# Altium integrated library Infineon_Sensor_IC.IntLib: 87 symbols (part 3 of 3)
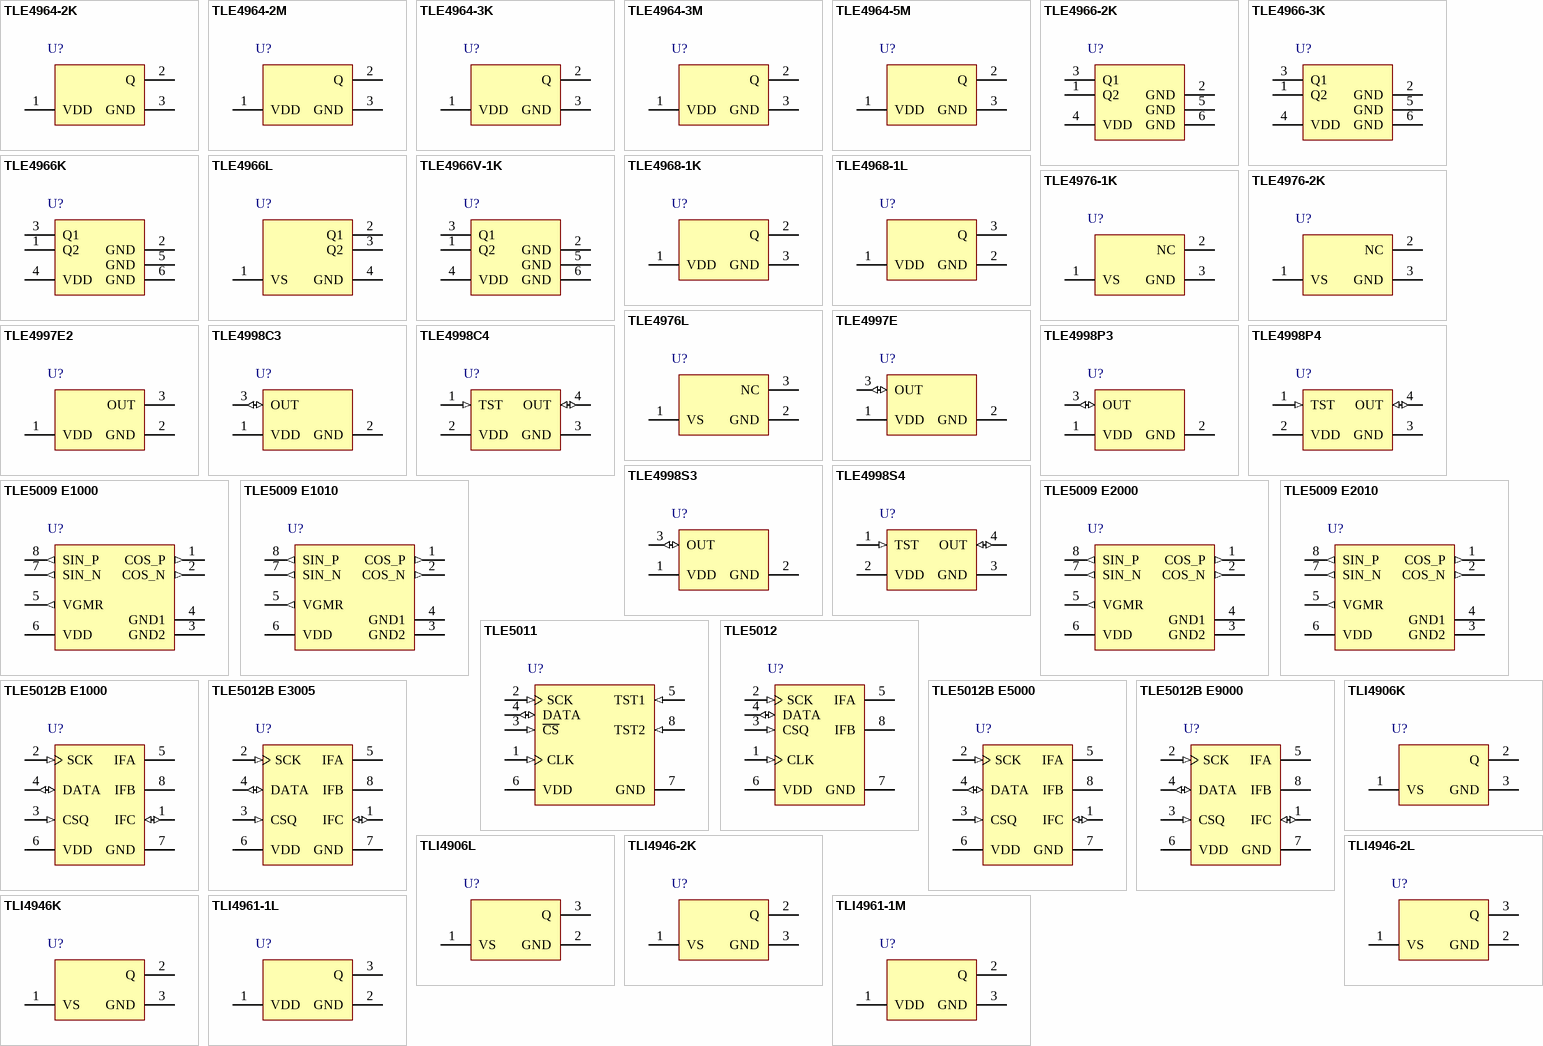
[diagram p4: symbols TLE4964-2K to TLI4961-1M]

## TLE5009 E2010
designator U?
GMR-Based Angular Sensor, PG-DSO-8-16, Reel, Green; Manufacturer: Infineon; PartNumber: TLE5009 E2010; Green: TRUE; Interface: Analog; DatasheetVersion: Rev. 1.1; PackageVersion: Mar-07; PackageReference: PG-DSO-8-16; PackageDescription: 8-Pin Plastic (Green) Dual Small Outline Package, 4.9 x 3.9 mm Body, 1.27 mm Pitch; Supplier 1: Mouser; Supplier Part Number 1: 726-TLE5009E2010; Halogen-free: available; Packing: Reel; Mounting Technology: Surface Mount; ComponentLink1Description: Manufacturer URL; ComponentLink1URL: http://www.infineon.com/; ComponentLink2Description: Datasheet; ComponentLink2URL: http://www.infineon.com/dgdl/TLE5009_FDS_Rev.1.1.pdf?folderId=db3a30431ce5fb52011d3dd6e8012582&fileId=db3a304330f686060131421d8ddd56b0; ComponentLink3Description: Package Specification; ComponentLink3URL: http://www.infineon.com/dgdl/TLE7259-2GE_DS_rev12.pdf?folderId=db3a3043163797a6011666d32a0c0de1&fileId=db3a3043163797a6011666d4dbb80de2&location=en.Products.Automotive_ICs.Automotive_Transceivers.LIN_Transceivers.DATASHEET.TLE7259-2GE_DS_rev12.pdf
footprint INF-PG-DSO-8-16_N (SOP, 8-Leads, Body 4.9x3.9mm, Pitch 1.27mm, IPC Medium Density)
footprint INF-PG-DSO-8-16_L (SOP, 8-Leads, Body 4.9x3.9mm, Pitch 1.27mm, IPC High Density)
footprint INF-PG-DSO-8-16_M (SOP, 8-Leads, Body 4.9x3.9mm, Pitch 1.27mm, IPC Low Density)
pins: 1 COS_P (out) "Analog positive cosine output", 2 COS_N (out) "Analog negative cosine output", 3 GND2 (power) "Ground", 4 GND1 (power) "Ground", 5 VGMR (out) "GMR bridge voltage proportional to temperature. Diagnostic function.", 6 VDD (power) "Supply voltage", 7 SIN_N (out) "Analog negative sine output", 8 SIN_P (out) "Analog positive sine output"

## TLE5011
designator U?
GMR Angle Sensor, PG-DSO-8-16, Reel, Green; Manufacturer: Infineon; PartNumber: TLE5011; Green: TRUE; Interface: SPI; DatasheetVersion: Rev. 2.0; PackageVersion: Mar-07; PackageReference: PG-DSO-8-16; PackageDescription: 8-Pin Plastic (Green) Dual Small Outline Package, 4.9 x 3.9 mm Body, 1.27 mm Pitch; Supplier 1: Mouser; Supplier Part Number 1: 726-TLE5011; Supplier 2: Digi-Key; Supplier Part Number 2: TLE5011-ND; Halogen-free: available; Packing: Reel; Mounting Technology: Surface Mount; ComponentLink1Description: Manufacturer URL; ComponentLink1URL: http://www.infineon.com/; ComponentLink2Description: Datasheet; ComponentLink2URL: http://www.infineon.com/dgdl/TLE5011_Final_Data_Sheet_V2.0.pdf?folderId=db3a30431ce5fb52011d3dd6e8012582&fileId=db3a30432ee77f32012f0c4368b5110e; ComponentLink3Description: Package Specification; ComponentLink3URL: http://www.infineon.com/dgdl/TLE7259-2GE_DS_rev12.pdf?folderId=db3a3043163797a6011666d32a0c0de1&fileId=db3a3043163797a6011666d4dbb80de2&location=en.Products.Automotive_ICs.Automotive_Transceivers.LIN_Transceivers.DATASHEET.TLE7259-2GE_DS_rev12.pdf
footprint INF-PG-DSO-8-16_N (SOP, 8-Leads, Body 4.9x3.9mm, Pitch 1.27mm, IPC Medium Density)
footprint INF-PG-DSO-8-16_L (SOP, 8-Leads, Body 4.9x3.9mm, Pitch 1.27mm, IPC High Density)
footprint INF-PG-DSO-8-16_M (SOP, 8-Leads, Body 4.9x3.9mm, Pitch 1.27mm, IPC Low Density)
pins: 1 CLK (in) "Chip Clock", 2 SCK (in) "SSC Clock", 3 ~{CS} (in) "SSC Chip Select", 4 DATA (io) "SSC Data, open drain", 5 TST1 (in) "Test Pin 1, must be connected to GND", 6 VDD (power) "Supply Voltage", 7 GND (power) "Ground", 8 TST2 (in) "Test Pin 2, must be connected to GND"

## TLE5012
designator U?
GMR-Based Angular Sensor for Rotor-Position Sensing, PG-DSO-8-16, Reel, Green; Manufacturer: Infineon; PartNumber: TLE5012; Green: TRUE; Interface: SPI, PWM, HSM, IIF; DatasheetVersion: Rev. 1.0; PackageVersion: Mar-07; PackageReference: PG-DSO-8-16; PackageDescription: 8-Pin Plastic (Green) Dual Small Outline Package, 4.9 x 3.9 mm Body, 1.27 mm Pitch; Supplier 1: Mouser; Supplier Part Number 1: 726-TLE5012; Halogen-free: available; Packing: Reel; Mounting Technology: Surface Mount; ComponentLink1Description: Manufacturer URL; ComponentLink1URL: http://www.infineon.com/; ComponentLink2Description: Datasheet; ComponentLink2URL: http://www.infineon.com/dgdl/TLE5012_FDS_V_1.0.pdf?folderId=db3a304313d846880113dd9752130268&fileId=db3a30431ed1d7b2011f46f9ec2156c5; ComponentLink3Description: Package Specification; ComponentLink3URL: http://www.infineon.com/dgdl/TLE7259-2GE_DS_rev12.pdf?folderId=db3a3043163797a6011666d32a0c0de1&fileId=db3a3043163797a6011666d4dbb80de2&location=en.Products.Automotive_ICs.Automotive_Transceivers.LIN_Transceivers.DATASHEET.TLE7259-2GE_DS_rev12.pdf
footprint INF-PG-DSO-8-16_N (SOP, 8-Leads, Body 4.9x3.9mm, Pitch 1.27mm, IPC Medium Density)
footprint INF-PG-DSO-8-16_L (SOP, 8-Leads, Body 4.9x3.9mm, Pitch 1.27mm, IPC High Density)
footprint INF-PG-DSO-8-16_M (SOP, 8-Leads, Body 4.9x3.9mm, Pitch 1.27mm, IPC Low Density)
pins: 1 CLK (in) "External Clock (selection of interface)1)", 2 SCK (in) "SSC Clock", 3 CSQ (in) "SSC Chip Select", 4 DATA (io) "Interface DATA: SSC DATA; IIF Index; Hall Switch signal 3", 5 IFA (oc) "Interface A: IIF phase A; Hall Switch signal 1; PWM", 6 VDD (power) "Supply voltage", 7 GND (power) "Ground", 8 IFB (oc) "Interface B: IIF phase B; Hall Switch signal 2"

## TLE5012B E1000
designator U?
GMR-Based Angle Sensor, PG-DSO-8-16, Reel, Green; Manufacturer: Infineon; PartNumber: TLE5012B E1000; Green: TRUE; Interface: SPI, IIF; DatasheetVersion: Rev. 1.1; PackageVersion: Mar-07; PackageReference: PG-DSO-8-16; PackageDescription: 8-Pin Plastic (Green) Dual Small Outline Package, 4.9 x 3.9 mm Body, 1.27 mm Pitch; Supplier 1: Mouser; Supplier Part Number 1: 726-TLE5012BE1000; Halogen-free: available; Packing: Reel; Mounting Technology: Surface Mount; ComponentLink1Description: Manufacturer URL; ComponentLink1URL: http://www.infineon.com/; ComponentLink2Description: Datasheet; ComponentLink2URL: http://www.infineon.com/dgdl/TLE5012B_FDS_Rev1+1.pdf?folderId=db3a30431ce5fb52011d3dd6e8012582&fileId=db3a304334fac4c601350f31c43c433f; ComponentLink3Description: Package Specification; ComponentLink3URL: http://www.infineon.com/dgdl/TLE7259-2GE_DS_rev12.pdf?folderId=db3a3043163797a6011666d32a0c0de1&fileId=db3a3043163797a6011666d4dbb80de2&location=en.Products.Automotive_ICs.Automotive_Transceivers.LIN_Transceivers.DATASHEET.TLE7259-2GE_DS_rev12.pdf
footprint INF-PG-DSO-8-16_N (SOP, 8-Leads, Body 4.9x3.9mm, Pitch 1.27mm, IPC Medium Density)
footprint INF-PG-DSO-8-16_L (SOP, 8-Leads, Body 4.9x3.9mm, Pitch 1.27mm, IPC High Density)
footprint INF-PG-DSO-8-16_M (SOP, 8-Leads, Body 4.9x3.9mm, Pitch 1.27mm, IPC Low Density)
pins: 1 IFC (io) "Interface C: External Clock / IIF Index / Hall Switch  Signal 3", 2 SCK (in) "SSC Clock", 3 CSQ (in) "SSC Chip Select", 4 DATA (io) "SSC Data", 5 IFA (oc) "Interface A:  IIF Phase A / Hall Switch Signal 1 /  PWM / SPC output", 6 VDD (power) "Supply Voltage", 7 GND (power) "Ground", 8 IFB (oc) "Interface B: IIF Phase B / Hall Switch Signal 2"

## TLE5012B E3005
designator U?
GMR-Based Angle Sensor, PG-DSO-8-16, Reel, Green; Manufacturer: Infineon; PartNumber: TLE5012B E3005; Green: TRUE; Interface: SPI, HSM; DatasheetVersion: Rev. 1.1; PackageVersion: Mar-07; PackageReference: PG-DSO-8-16; PackageDescription: 8-Pin Plastic (Green) Dual Small Outline Package, 4.9 x 3.9 mm Body, 1.27 mm Pitch; Supplier 1: Mouser; Supplier Part Number 1: 726-TLE5012BE3005; Halogen-free: available; Packing: Reel; Mounting Technology: Surface Mount; ComponentLink1Description: Manufacturer URL; ComponentLink1URL: http://www.infineon.com/; ComponentLink2Description: Datasheet; ComponentLink2URL: http://www.infineon.com/dgdl/TLE5012B_FDS_Rev1+1.pdf?folderId=db3a30431ce5fb52011d3dd6e8012582&fileId=db3a304334fac4c601350f31c43c433f; ComponentLink3Description: Package Specification; ComponentLink3URL: http://www.infineon.com/dgdl/TLE7259-2GE_DS_rev12.pdf?folderId=db3a3043163797a6011666d32a0c0de1&fileId=db3a3043163797a6011666d4dbb80de2&location=en.Products.Automotive_ICs.Automotive_Transceivers.LIN_Transceivers.DATASHEET.TLE7259-2GE_DS_rev12.pdf
footprint INF-PG-DSO-8-16_N (SOP, 8-Leads, Body 4.9x3.9mm, Pitch 1.27mm, IPC Medium Density)
footprint INF-PG-DSO-8-16_L (SOP, 8-Leads, Body 4.9x3.9mm, Pitch 1.27mm, IPC High Density)
footprint INF-PG-DSO-8-16_M (SOP, 8-Leads, Body 4.9x3.9mm, Pitch 1.27mm, IPC Low Density)
pins: 1 IFC (io) "Interface C: External Clock / IIF Index / Hall Switch  Signal 3", 2 SCK (in) "SSC Clock", 3 CSQ (in) "SSC Chip Select", 4 DATA (io) "SSC Data", 5 IFA (oc) "Interface A:  IIF Phase A / Hall Switch Signal 1 /  PWM / SPC output", 6 VDD (power) "Supply Voltage", 7 GND (power) "Ground", 8 IFB (oc) "Interface B: IIF Phase B / Hall Switch Signal 2"

## TLE5012B E5000
designator U?
GMR-Based Angle Sensor, PG-DSO-8-16, Reel, Green; Manufacturer: Infineon; PartNumber: TLE5012B E5000; Green: TRUE; Interface: SPI, PWM; DatasheetVersion: Rev. 1.1; PackageVersion: Mar-07; PackageReference: PG-DSO-8-16; PackageDescription: 8-Pin Plastic (Green) Dual Small Outline Package, 4.9 x 3.9 mm Body, 1.27 mm Pitch; Supplier 1: Mouser; Supplier Part Number 1: 726-TLE5012BE5000; Halogen-free: available; Packing: Reel; Mounting Technology: Surface Mount; ComponentLink1Description: Manufacturer URL; ComponentLink1URL: http://www.infineon.com/; ComponentLink2Description: Datasheet; ComponentLink2URL: http://www.infineon.com/dgdl/TLE5012B_FDS_Rev1+1.pdf?folderId=db3a30431ce5fb52011d3dd6e8012582&fileId=db3a304334fac4c601350f31c43c433f; ComponentLink3Description: Package Specification; ComponentLink3URL: http://www.infineon.com/dgdl/TLE7259-2GE_DS_rev12.pdf?folderId=db3a3043163797a6011666d32a0c0de1&fileId=db3a3043163797a6011666d4dbb80de2&location=en.Products.Automotive_ICs.Automotive_Transceivers.LIN_Transceivers.DATASHEET.TLE7259-2GE_DS_rev12.pdf
footprint INF-PG-DSO-8-16_N (SOP, 8-Leads, Body 4.9x3.9mm, Pitch 1.27mm, IPC Medium Density)
footprint INF-PG-DSO-8-16_L (SOP, 8-Leads, Body 4.9x3.9mm, Pitch 1.27mm, IPC High Density)
footprint INF-PG-DSO-8-16_M (SOP, 8-Leads, Body 4.9x3.9mm, Pitch 1.27mm, IPC Low Density)
pins: 1 IFC (io) "Interface C: External Clock / IIF Index / Hall Switch  Signal 3", 2 SCK (in) "SSC Clock", 3 CSQ (in) "SSC Chip Select", 4 DATA (io) "SSC Data", 5 IFA (oc) "Interface A:  IIF Phase A / Hall Switch Signal 1 /  PWM / SPC output", 6 VDD (power) "Supply Voltage", 7 GND (power) "Ground", 8 IFB (oc) "Interface B: IIF Phase B / Hall Switch Signal 2"

## TLE5012B E9000
designator U?
GMR-Based Angle Sensor, PG-DSO-8-16, Reel, Green; Manufacturer: Infineon; PartNumber: TLE5012B E9000; Green: TRUE; Interface: SPI, SPC; DatasheetVersion: Rev. 1.1; PackageVersion: Mar-07; PackageReference: PG-DSO-8-16; PackageDescription: 8-Pin Plastic (Green) Dual Small Outline Package, 4.9 x 3.9 mm Body, 1.27 mm Pitch; Supplier 1: Mouser; Supplier Part Number 1: 726-TLE5012BE9000; Halogen-free: available; Packing: Reel; Mounting Technology: Surface Mount; ComponentLink1Description: Manufacturer URL; ComponentLink1URL: http://www.infineon.com/; ComponentLink2Description: Datasheet; ComponentLink2URL: http://www.infineon.com/dgdl/TLE5012B_FDS_Rev1+1.pdf?folderId=db3a30431ce5fb52011d3dd6e8012582&fileId=db3a304334fac4c601350f31c43c433f; ComponentLink3Description: Package Specification; ComponentLink3URL: http://www.infineon.com/dgdl/TLE7259-2GE_DS_rev12.pdf?folderId=db3a3043163797a6011666d32a0c0de1&fileId=db3a3043163797a6011666d4dbb80de2&location=en.Products.Automotive_ICs.Automotive_Transceivers.LIN_Transceivers.DATASHEET.TLE7259-2GE_DS_rev12.pdf
footprint INF-PG-DSO-8-16_N (SOP, 8-Leads, Body 4.9x3.9mm, Pitch 1.27mm, IPC Medium Density)
footprint INF-PG-DSO-8-16_L (SOP, 8-Leads, Body 4.9x3.9mm, Pitch 1.27mm, IPC High Density)
footprint INF-PG-DSO-8-16_M (SOP, 8-Leads, Body 4.9x3.9mm, Pitch 1.27mm, IPC Low Density)
pins: 1 IFC (io) "Interface C: External Clock / IIF Index / Hall Switch  Signal 3", 2 SCK (in) "SSC Clock", 3 CSQ (in) "SSC Chip Select", 4 DATA (io) "SSC Data", 5 IFA (oc) "Interface A:  IIF Phase A / Hall Switch Signal 1 /  PWM / SPC output", 6 VDD (power) "Supply Voltage", 7 GND (power) "Ground", 8 IFB (oc) "Interface B: IIF Phase B / Hall Switch Signal 2"

## TLI4906K
designator U?
High Precision Hall Effect Switche for Industrial and Consumer Applications, PG-SC59, Reel, Green; Manufacturer: Infineon; PartNumber: TLI4906K; Bhyst (25degreesC) max: 1.5 mT; Bop (25degreesC) min: 10 mT; Brp (25degreesC) typ: 8.5 mT; Chopped Hall Technology: TRUE; Direction Detection: FALSE; Interface: open collector; DatasheetVersion: Rev. 1.0; PackageVersion: Mar-08; PackageReference: PG-SC59; PackageDescription: 3-Pin Semiconductor Package, 3 x 1.53 mm Body, 0.95 mm Pitch; Supplier 1: Mouser; Supplier Part Number 1: 726-TLI4906K; Supplier 2: Digi-Key; Supplier Part Number 2: TLI4906K-ND; Green: TRUE; Packing: Reel; Target Application: Industrial; Type: Unipolar; Mounting Technology: Surface Mount; ComponentLink1Description: Manufacturer URL; ComponentLink1URL: http://www.infineon.com/; ComponentLink2Description: Datasheet; ComponentLink2URL: http://www.infineon.com/dgdl/TLI4906x_DS_Rev1.pdf?folderId=db3a30431f848401011facc1c83b4674&fileId=db3a304320d39d590121543b7ddc05c4; ComponentLink3Description: Package Specification; ComponentLink3URL: http://www.infineon.com/dgdl/SC59-Package_Overview.pdf?folderId=db3a30431936bc4b01194dc0d34440b0&fileId=db3a30431936bc4b01194dd1aa1d40cf
footprint INF-PG-SC59_N (SOT23, 3-Leads, Body 3x1.53mm, Pitch 0.95mm, IPC Medium Density)
footprint INF-PG-SC59_L (SOT23, 3-Leads, Body 3x1.53mm, Pitch 0.95mm, IPC High Density)
footprint INF-PG-SC59_M (SOT23, 3-Leads, Body 3x1.53mm, Pitch 0.95mm, IPC Low Density)
pins: 1 VS (power) "Supply voltage", 2 Q (oc) "Output", 3 GND (power) "Ground"

## TLI4906L
designator U?
High Precision Hall Effect Switch for Industrial and Consumer Applications, PG-SSO-3-2, AMMO-PACK, Green; Manufacturer: Infineon; PartNumber: TLI4906L; Bhyst (25degreesC) max: 1.5 mT; Bop (25degreesC) min: 10 mT; Brp (25degreesC) typ: 8.5 mT; Chopped Hall Technology: TRUE; Direction Detection: FALSE; Interface: open collector; DatasheetVersion: Rev. 1.0; PackageVersion: Jul-12; PackageReference: PG-SSO-3-2; PackageDescription: 3-Pin Plastic (Green) Single Small Outline, 4.16 x 3.29 mm Body, 1.27 mm Pitch; Supplier 1: Mouser; Supplier Part Number 1: 726-TLI4906L; Supplier 2: Digi-Key; Supplier Part Number 2: TLI4906L-ND; Green: TRUE; Packing: AMMO-PACK; Target Application: Industrial; Type: Unipolar; Mounting Technology: Through Hole; ComponentLink1Description: Manufacturer URL; ComponentLink1URL: http://www.infineon.com/; ComponentLink2Description: Datasheet; ComponentLink2URL: http://www.infineon.com/dgdl/TLI4906x_DS_Rev1.pdf?folderId=db3a30431f848401011facc1c83b4674&fileId=db3a304320d39d590121543b7ddc05c4; ComponentLink3Description: Package Specification; ComponentLink3URL: http://www.infineon.com/dgdl/TLE4961-1L_DS_Rev1.0.pdf?folderId=db3a30431ce5fb52011d29818c631b6b&fileId=db3a3043397219b6013977b435505444
footprint INF-PG-SSO-3-2_V (SSO, 3-Leads, Body 4.16x3.29mm, Pitch 1.27mm)
pins: 1 VS (power) "Supply Voltage", 2 GND (power) "Ground", 3 Q (oc) "Output"

## TLI4946-2K
designator U?
High Precision Hall Effect Latch for Industrial and Consumer Applications, PG-SC59, Reel, Green; Manufacturer: Infineon; PartNumber: TLI4946-2K; Bhyst (25degreesC) max: 4 mT; Bop (25degreesC) min: 2 mT; Brp (25degreesC) typ: -2 mT; Chopped Hall Technology: TRUE; Direction Detection: FALSE; Interface: open collector; DatasheetVersion: Rev. 1.0; PackageVersion: Mar-08; PackageReference: PG-SC59; PackageDescription: 3-Pin Semiconductor Package, 3 x 1.53 mm Body, 0.95 mm Pitch; Supplier 1: Mouser; Supplier Part Number 1: 726-TLI4946-2K; Supplier 2: Digi-Key; Supplier Part Number 2: TLI4946-2K-ND; Green: TRUE; Packing: Reel; Target Application: Industrial; Type: Latch; Mounting Technology: Surface Mount; ComponentLink1Description: Manufacturer URL; ComponentLink1URL: http://www.infineon.com/; ComponentLink2Description: Datasheet; ComponentLink2URL: http://www.infineon.com/dgdl/TLI4946xy_DS_Rev1.pdf?folderId=db3a30431f848401011facc1c83b4674&fileId=db3a304320d39d590121543f7e4c05c8; ComponentLink3Description: Package Specification; ComponentLink3URL: http://www.infineon.com/dgdl/SC59-Package_Overview.pdf?folderId=db3a30431936bc4b01194dc0d34440b0&fileId=db3a30431936bc4b01194dd1aa1d40cf
footprint INF-PG-SC59_N (SOT23, 3-Leads, Body 3x1.53mm, Pitch 0.95mm, IPC Medium Density)
footprint INF-PG-SC59_L (SOT23, 3-Leads, Body 3x1.53mm, Pitch 0.95mm, IPC High Density)
footprint INF-PG-SC59_M (SOT23, 3-Leads, Body 3x1.53mm, Pitch 0.95mm, IPC Low Density)
pins: 1 VS (power) "Supply voltage", 2 Q (oc) "Output", 3 GND (power) "Ground"

## TLI4946-2L
designator U?
High Precision Hall Effect Latch for Industrial and Consumer Applications, PG-SSO-3-2, AMMO-PACK, Green; Manufacturer: Infineon; PartNumber: TLI4946-2L; Bhyst (25degreesC) max: 4 mT; Bop (25degreesC) min: 2 mT; Brp (25degreesC) typ: -2 mT; Chopped Hall Technology: TRUE; Direction Detection: FALSE; Interface: open collector; DatasheetVersion: Rev. 1.0; PackageVersion: Jul-12; PackageReference: PG-SSO-3-2; PackageDescription: 3-Pin Plastic (Green) Single Small Outline, 4.16 x 3.29 mm Body, 1.27 mm Pitch; Supplier 1: Mouser; Supplier Part Number 1: 726-TLI4946-2L; Supplier 2: Digi-Key; Supplier Part Number 2: TLI4946-2L-ND; Green: TRUE; Packing: AMMO-PACK; Target Application: Industrial; Type: Latch; Mounting Technology: Through Hole; ComponentLink1Description: Manufacturer URL; ComponentLink1URL: http://www.infineon.com/; ComponentLink2Description: Datasheet; ComponentLink2URL: http://www.infineon.com/dgdl/TLI4946xy_DS_Rev1.pdf?folderId=db3a30431f848401011facc1c83b4674&fileId=db3a304320d39d590121543f7e4c05c8; ComponentLink3Description: Package Specification; ComponentLink3URL: http://www.infineon.com/dgdl/TLE4961-1L_DS_Rev1.0.pdf?folderId=db3a30431ce5fb52011d29818c631b6b&fileId=db3a3043397219b6013977b435505444
footprint INF-PG-SSO-3-2_V (SSO, 3-Leads, Body 4.16x3.29mm, Pitch 1.27mm)
pins: 1 VS (power) "Supply Voltage", 2 GND (power) "Ground", 3 Q (oc) "Output"

## TLI4946K
designator U?
High Precision Hall Effect Latch for Industrial and Consumer Applications, PG-SC59, Reel, Green; Manufacturer: Infineon; PartNumber: TLI4946K; Bhyst (25degreesC) max: 28 mT; Bop (25degreesC) min: 14 mT; Brp (25degreesC) typ: -14 mT; Chopped Hall Technology: TRUE; Direction Detection: FALSE; Interface: open collector; DatasheetVersion: Rev. 1.0; PackageVersion: Mar-08; PackageReference: PG-SC59; PackageDescription: 3-Pin Semiconductor Package, 3 x 1.53 mm Body, 0.95 mm Pitch; Supplier 1: Mouser; Supplier Part Number 1: 726-TLI4946K; Supplier 2: Digi-Key; Supplier Part Number 2: TLI4946K-ND; Green: TRUE; Packing: Reel; Target Application: Industrial; Type: Latch; Mounting Technology: Surface Mount; ComponentLink1Description: Manufacturer URL; ComponentLink1URL: http://www.infineon.com/; ComponentLink2Description: Datasheet; ComponentLink2URL: http://www.infineon.com/dgdl/TLI4946xy_DS_Rev1.pdf?folderId=db3a30431f848401011facc1c83b4674&fileId=db3a304320d39d590121543f7e4c05c8; ComponentLink3Description: Package Specification; ComponentLink3URL: http://www.infineon.com/dgdl/SC59-Package_Overview.pdf?folderId=db3a30431936bc4b01194dc0d34440b0&fileId=db3a30431936bc4b01194dd1aa1d40cf
footprint INF-PG-SC59_N (SOT23, 3-Leads, Body 3x1.53mm, Pitch 0.95mm, IPC Medium Density)
footprint INF-PG-SC59_L (SOT23, 3-Leads, Body 3x1.53mm, Pitch 0.95mm, IPC High Density)
footprint INF-PG-SC59_M (SOT23, 3-Leads, Body 3x1.53mm, Pitch 0.95mm, IPC Low Density)
pins: 1 VS (power) "Supply voltage", 2 Q (oc) "Output", 3 GND (power) "Ground"

## TLI4961-1L
designator U?
Hall Effect Latch for Industrial Applications, -40 to 125 degC, PG-SSO-3-2, AMMO-PACK, Green; Manufacturer: Infineon; PartNumber: TLI4961-1L; Bhyst (25degreesC) max: 4 mT; Bop (25degreesC) min: 2 mT; Brp (25degreesC) typ: -2 mT; Chopped Hall Technology: TRUE; Direction Detection: FALSE; Interface: open collector; DatasheetVersion: Rev. 1.1; PackageVersion: Jul-12; PackageReference: PG-SSO-3-2; PackageDescription: 3-Pin Plastic (Green) Single Small Outline, 4.16 x 3.29 mm Body, 1.27 mm Pitch; Green: TRUE; Packing: AMMO-PACK; Target Application: Industrial; Type: Latch; Mounting Technology: Through Hole; ComponentLink1Description: Manufacturer URL; ComponentLink1URL: http://www.infineon.com/; ComponentLink2Description: Datasheet; ComponentLink2URL: http://www.infineon.com/dgdl/TLI4961-1_DS_Rev1.1.pdf?folderId=db3a30431ce5fb52011d29818c631b6b&fileId=db3a304338e5bb6e0138e7ae76540244; ComponentLink3Description: Package Specification; ComponentLink3URL: http://www.infineon.com/dgdl/TLE4961-1L_DS_Rev1.0.pdf?folderId=db3a30431ce5fb52011d29818c631b6b&fileId=db3a3043397219b6013977b435505444
footprint INF-PG-SSO-3-2_V (SSO, 3-Leads, Body 4.16x3.29mm, Pitch 1.27mm)
pins: 1 VDD (power) "Supply voltage", 2 GND (power) "Ground", 3 Q (oc) "Output"

## TLI4961-1M
designator U?
Hall Effect Latch for Industrial Applications, -40 to 125 degC, PG-SOT23-3-15, Reel, Green; Manufacturer: Infineon; PartNumber: TLI4961-1M; Bhyst (25degreesC) max: 4 mT; Bop (25degreesC) min: 2 mT; Brp (25degreesC) typ: -2 mT; Chopped Hall Technology: TRUE; Direction Detection: FALSE; Interface: open collector; DatasheetVersion: Rev. 1.1; PackageVersion: Apr-08; PackageReference: PG-SOT23-3-15; PackageDescription: 3-Pin Small Outline Transistor Package, 2.9 x 1.3 mm Body, 0.95 mm Pitch; Green: TRUE; Halogen-free: TRUE; Packing: Reel; Target Application: Industrial; Type: Latch; Mounting Technology: Surface Mount; ComponentLink1Description: Manufacturer URL; ComponentLink1URL: http://www.infineon.com/; ComponentLink2Description: Datasheet; ComponentLink2URL: http://www.infineon.com/dgdl/TLI4961-1_DS_Rev1.1.pdf?folderId=db3a30431ce5fb52011d29818c631b6b&fileId=db3a304338e5bb6e0138e7ae76540244; ComponentLink3Description: Package Specification; ComponentLink3URL: http://www.infineon.com/dgdl/SOT23-Package_Overview.pdf?folderId=db3a30431936bc4b0119532290053c66&fileId=db3a30431936bc4b0119533468123c85
footprint INF-PG-SOT23-3-15_N (SOT23, 3-Leads, Body 2.9x1.3mm, Pitch 0.95mm, IPC Medium Density)
footprint INF-PG-SOT23-3-15_L (SOT23, 3-Leads, Body 2.9x1.3mm, Pitch 0.95mm, IPC High Density)
footprint INF-PG-SOT23-3-15_M (SOT23, 3-Leads, Body 2.9x1.3mm, Pitch 0.95mm, IPC Low Density)
pins: 1 VDD (power) "Supply voltage", 2 Q (oc) "Output", 3 GND (power) "Ground"

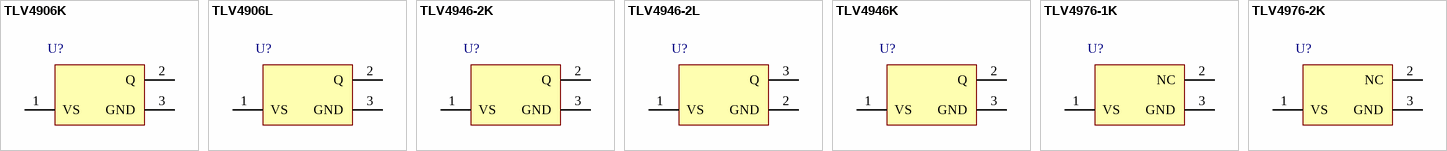
[diagram p2: symbols TLV4906K to TLV4976-2K]

## TLV4906K
designator U?
Value Optimized Hall Effect Switch for Industrial and Consumer Applications, PG-SC59, Reel, Green; Manufacturer: Infineon; PartNumber: TLV4906K; Bhyst (25degreesC) max: 1.5 mT; Bop (25degreesC) min: 10 mT; Brp (25degreesC) typ: 8.5 mT; Chopped Hall Technology: TRUE; Direction Detection: FALSE; Interface: open collector; DatasheetVersion: Rev. 1.1; PackageVersion: Mar-08; PackageReference: PG-SC59; PackageDescription: 3-Pin Semiconductor Package, 3 x 1.53 mm Body, 0.95 mm Pitch; Supplier 1: Mouser; Supplier Part Number 1: 726-TLV4906K; Supplier 2: Digi-Key; Supplier Part Number 2: TLV4906KTR-ND; Supplier 3: Digi-Key; Supplier Part Number 3: TLV4906KCT-ND; Supplier 4: Digi-Key; Supplier Part Number 4: TLV4906KDKR-ND; Green: TRUE; Halogen-free: available; Packing: Reel; Target Application: Consumer; Type: Unipolar; Mounting Technology: Surface Mount; ComponentLink1Description: Manufacturer URL; ComponentLink1URL: http://www.infineon.com/; ComponentLink2Description: Datasheet; ComponentLink2URL: http://www.infineon.com/dgdl/TLV4906K_DS_Rev1.1.pdf?folderId=db3a30431f848401011facc1c83b4674&fileId=db3a304320d39d590121544295e605cd; ComponentLink3Description: Package Specification; ComponentLink3URL: http://www.infineon.com/dgdl/SC59-Package_Overview.pdf?folderId=db3a30431936bc4b01194dc0d34440b0&fileId=db3a30431936bc4b01194dd1aa1d40cf
footprint INF-PG-SC59_N (SOT23, 3-Leads, Body 3x1.53mm, Pitch 0.95mm, IPC Medium Density)
footprint INF-PG-SC59_L (SOT23, 3-Leads, Body 3x1.53mm, Pitch 0.95mm, IPC High Density)
footprint INF-PG-SC59_M (SOT23, 3-Leads, Body 3x1.53mm, Pitch 0.95mm, IPC Low Density)
pins: 1 VS (power) "Supply voltage", 2 Q (oc) "Output", 3 GND (power) "Ground"

## TLV4906L
designator U?
Value Optimized Hall Effect Switch for Industrial and Consumer Applications, PG-SC59, Reel, Green; Manufacturer: Infineon; PartNumber: TLV4906L; Bhyst (25degreesC) max: 1.5 mT; Bop (25degreesC) min: 10 mT; Brp (25degreesC) typ: 8.5 mT; Chopped Hall Technology: TRUE; Direction Detection: FALSE; Interface: open collector; DatasheetVersion: Rev. 1.1; PackageVersion: Mar-08; PackageReference: PG-SC59; PackageDescription: 3-Pin Semiconductor Package, 3 x 1.53 mm Body, 0.95 mm Pitch; Supplier 1: Mouser; Supplier Part Number 1: 726-TLV4906L; Supplier 2: Digi-Key; Supplier Part Number 2: TLV4906L-ND; Green: TRUE; Packing: Reel; Target Application: Consumer; Type: Unipolar; Mounting Technology: Surface Mount; ComponentLink1Description: Manufacturer URL; ComponentLink1URL: http://www.infineon.com/; ComponentLink2Description: Datasheet; ComponentLink2URL: http://www.infineon.com/dgdl/TLV4906K_DS_Rev1.1.pdf?folderId=db3a30431f848401011facc1c83b4674&fileId=db3a304320d39d590121544295e605cd; ComponentLink3Description: Package Specification; ComponentLink3URL: http://www.infineon.com/dgdl/SC59-Package_Overview.pdf?folderId=db3a30431936bc4b01194dc0d34440b0&fileId=db3a30431936bc4b01194dd1aa1d40cf
footprint INF-PG-SC59_N (SOT23, 3-Leads, Body 3x1.53mm, Pitch 0.95mm, IPC Medium Density)
footprint INF-PG-SC59_L (SOT23, 3-Leads, Body 3x1.53mm, Pitch 0.95mm, IPC High Density)
footprint INF-PG-SC59_M (SOT23, 3-Leads, Body 3x1.53mm, Pitch 0.95mm, IPC Low Density)
pins: 1 VS (power) "Supply voltage", 2 Q (oc) "Output", 3 GND (power) "Ground"

## TLV4946-2K
designator U?
Value Optimized Hall Effect Latch for Industrial and Consumer Applications, PG-SC59, Reel, Green; Manufacturer: Infineon; PartNumber: TLV4946-2K; Bhyst (25degreesC) max: 4 mT; Bop (25degreesC) min: 2 mT; Brp (25degreesC) typ: -2 mT; Chopped Hall Technology: TRUE; Direction Detection: FALSE; Interface: open collector; DatasheetVersion: Rev. 1.1; PackageVersion: Mar-08; PackageReference: PG-SC59; PackageDescription: 3-Pin Semiconductor Package, 3 x 1.53 mm Body, 0.95 mm Pitch; Supplier 1: Mouser; Supplier Part Number 1: 726-TLV4946-2K; Supplier 2: Digi-Key; Supplier Part Number 2: TLV4946-2K-ND; Green: TRUE; Halogen-free: available; Packing: Reel; Target Application: Consumer; Type: Latch; Mounting Technology: Surface Mount; ComponentLink1Description: Manufacturer URL; ComponentLink1URL: http://www.infineon.com/; ComponentLink2Description: Datasheet; ComponentLink2URL: http://www.infineon.com/dgdl/TLV4946-xK_DS_Rev1.1.pdf?folderId=db3a30431f848401011facc1c83b4674&fileId=db3a304320d39d5901215443fca305d1; ComponentLink3Description: Package Specification; ComponentLink3URL: http://www.infineon.com/dgdl/SC59-Package_Overview.pdf?folderId=db3a30431936bc4b01194dc0d34440b0&fileId=db3a30431936bc4b01194dd1aa1d40cf
footprint INF-PG-SC59_N (SOT23, 3-Leads, Body 3x1.53mm, Pitch 0.95mm, IPC Medium Density)
footprint INF-PG-SC59_L (SOT23, 3-Leads, Body 3x1.53mm, Pitch 0.95mm, IPC High Density)
footprint INF-PG-SC59_M (SOT23, 3-Leads, Body 3x1.53mm, Pitch 0.95mm, IPC Low Density)
pins: 1 VS (power) "Supply voltage", 2 Q (oc) "Output", 3 GND (power) "Ground"

## TLV4946-2L
designator U?
Value Optimized Hall Effect Latch for Industrial and Consumer Applications, PG-SSO-3-2, AMMO-PACK, Green; Manufacturer: Infineon; PartNumber: TLV4946-2L; Bhyst (25degreesC) max: 4 mT; Bop (25degreesC) min: 2 mT; Brp (25degreesC) typ: -2 mT; Chopped Hall Technology: TRUE; Direction Detection: FALSE; Interface: open collector; DatasheetVersion: Rev. 1.1; PackageVersion: Jul-12; PackageReference: PG-SSO-3-2; PackageDescription: 3-Pin Plastic (Green) Single Small Outline, 4.16 x 3.29 mm Body, 1.27 mm Pitch; Supplier 1: Mouser; Supplier Part Number 1: 726-TLV4946-2L; Supplier 2: Digi-Key; Supplier Part Number 2: TLV4946-2L-ND; Green: TRUE; Packing: AMMO-PACK; Target Application: Consumer; Type: Latch; Mounting Technology: Through Hole; ComponentLink1Description: Manufacturer URL; ComponentLink1URL: http://www.infineon.com/; ComponentLink2Description: Datasheet; ComponentLink2URL: http://www.infineon.com/dgdl/TLV4946-2L_DS_Rev1+1.pdf?folderId=db3a30431f848401011facc1c83b4674&fileId=db3a304332b626b80132cf3f8bc0673b; ComponentLink3Description: Package Specification; ComponentLink3URL: http://www.infineon.com/dgdl/TLE4961-1L_DS_Rev1.0.pdf?folderId=db3a30431ce5fb52011d29818c631b6b&fileId=db3a3043397219b6013977b435505444
footprint INF-PG-SSO-3-2_V (SSO, 3-Leads, Body 4.16x3.29mm, Pitch 1.27mm)
pins: 1 VS (power) "Supply Voltage", 2 GND (power) "Ground", 3 Q (oc) "Output"

## TLV4946K
designator U?
Value Optimized Hall Effect Latch for Industrial and Consumer Applications, PG-SC59, Reel, Green; Manufacturer: Infineon; PartNumber: TLV4946K; Bhyst (25degreesC) max: 28 mT; Bop (25degreesC) min: 14 mT; Brp (25degreesC) typ: -14 mT; Chopped Hall Technology: TRUE; Direction Detection: FALSE; Interface: open collector; DatasheetVersion: Rev. 1.1; PackageVersion: Mar-08; PackageReference: PG-SC59; PackageDescription: 3-Pin Semiconductor Package, 3 x 1.53 mm Body, 0.95 mm Pitch; Supplier 1: Mouser; Supplier Part Number 1: 726-TLV4946K; Supplier 2: Digi-Key; Supplier Part Number 2: TLV4946K-ND; Green: TRUE; Halogen-free: available; Packing: Reel; Target Application: Consumer; Type: Latch; Mounting Technology: Surface Mount; ComponentLink1Description: Manufacturer URL; ComponentLink1URL: http://www.infineon.com/; ComponentLink2Description: Datasheet; ComponentLink2URL: http://www.infineon.com/dgdl/TLV4946-xK_DS_Rev1.1.pdf?folderId=db3a30431f848401011facc1c83b4674&fileId=db3a304320d39d5901215443fca305d1; ComponentLink3Description: Package Specification; ComponentLink3URL: http://www.infineon.com/dgdl/SC59-Package_Overview.pdf?folderId=db3a30431936bc4b01194dc0d34440b0&fileId=db3a30431936bc4b01194dd1aa1d40cf
footprint INF-PG-SC59_N (SOT23, 3-Leads, Body 3x1.53mm, Pitch 0.95mm, IPC Medium Density)
footprint INF-PG-SC59_L (SOT23, 3-Leads, Body 3x1.53mm, Pitch 0.95mm, IPC High Density)
footprint INF-PG-SC59_M (SOT23, 3-Leads, Body 3x1.53mm, Pitch 0.95mm, IPC Low Density)
pins: 1 VS (power) "Supply voltage", 2 Q (oc) "Output", 3 GND (power) "Ground"

## TLV4976-1K
designator U?
Value Optimized Hall Effect Switch with Current Interface for Industrial and Consumer Applications, PG-SC59, Reel, Green; Manufacturer: Infineon; PartNumber: TLV4976-1K; Bhyst (25degreesC) max: 2 mT; Bop (25degreesC) min: 9.25 mT; Brp (25degreesC) typ: 7.25 mT; Chopped Hall Technology: TRUE; Direction Detection: FALSE; DatasheetVersion: Rev. 1.0; PackageVersion: Mar-08; PackageReference: PG-SC59; PackageDescription: 3-Pin Semiconductor Package, 3 x 1.53 mm Body, 0.95 mm Pitch; Supplier 1: Mouser; Supplier Part Number 1: 726-TLV4976-1K; Green: TRUE; Halogen-free: TRUE; Interface: current interface; Packing: Reel; Target Application: Consumer; Type: Unipolar; Mounting Technology: Surface Mount; ComponentLink1Description: Manufacturer URL; ComponentLink1URL: http://www.infineon.com/; ComponentLink2Description: Datasheet; ComponentLink2URL: http://www.infineon.com/dgdl/TLV4976-1K_DS_Rev1.pdf?folderId=db3a30431ce5fb52011d29818c631b6b&fileId=db3a30432b57a660012ba0582aba0ba7; ComponentLink3Description: Package Specification; ComponentLink3URL: http://www.infineon.com/dgdl/SC59-Package_Overview.pdf?folderId=db3a30431936bc4b01194dc0d34440b0&fileId=db3a30431936bc4b01194dd1aa1d40cf
footprint INF-PG-SC59_N (SOT23, 3-Leads, Body 3x1.53mm, Pitch 0.95mm, IPC Medium Density)
footprint INF-PG-SC59_L (SOT23, 3-Leads, Body 3x1.53mm, Pitch 0.95mm, IPC High Density)
footprint INF-PG-SC59_M (SOT23, 3-Leads, Body 3x1.53mm, Pitch 0.95mm, IPC Low Density)
pins: 1 VS (power) "Supply voltage", 2 NC "No internal connection", 3 GND (power) "Ground"

## TLV4976-2K
designator U?
Value Optimized Hall Effect Switch with Current Interface for Industrial and Consumer Applications, PG-SC59, Reel, Green; Manufacturer: Infineon; PartNumber: TLV4976-2K; Bhyst (25degreesC) max: 1.8 mT; Bop (25degreesC) min: 4.5 mT; Brp (25degreesC) typ: 2.7 mT; Chopped Hall Technology: TRUE; Direction Detection: FALSE; DatasheetVersion: Rev. 1.1; PackageVersion: Mar-08; PackageReference: PG-SC59; PackageDescription: 3-Pin Semiconductor Package, 3 x 1.53 mm Body, 0.95 mm Pitch; Supplier 1: Mouser; Supplier Part Number 1: 726-TLV4976-2K; Green: TRUE; Halogen-free: TRUE; Interface: current interface; Packing: Reel; Target Application: Consumer; Type: Unipolar; Mounting Technology: Surface Mount; ComponentLink1Description: Manufacturer URL; ComponentLink1URL: http://www.infineon.com/; ComponentLink2Description: Datasheet; ComponentLink2URL: http://www.infineon.com/dgdl/TLV4976-2K_DS_Rev1.1.pdf?folderId=db3a30431ce5fb52011d29818c631b6b&fileId=db3a30432b57a660012ba05b73310bac; ComponentLink3Description: Package Specification; ComponentLink3URL: http://www.infineon.com/dgdl/SC59-Package_Overview.pdf?folderId=db3a30431936bc4b01194dc0d34440b0&fileId=db3a30431936bc4b01194dd1aa1d40cf
footprint INF-PG-SC59_N (SOT23, 3-Leads, Body 3x1.53mm, Pitch 0.95mm, IPC Medium Density)
footprint INF-PG-SC59_L (SOT23, 3-Leads, Body 3x1.53mm, Pitch 0.95mm, IPC High Density)
footprint INF-PG-SC59_M (SOT23, 3-Leads, Body 3x1.53mm, Pitch 0.95mm, IPC Low Density)
pins: 1 VS (power) "Supply voltage", 2 NC "No internal connection", 3 GND (power) "Ground"